# Altium schematic symbol library title_block_lib.SchLib: 1 symbol
Pins are listed as number, name and electrical type; pins without a type are passive.

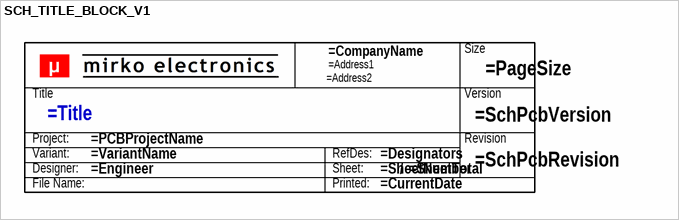
[diagram p0: symbol SCH_TITLE_BLOCK_V1]

## SCH_TITLE_BLOCK_V1
designator TB?, comment Title block  (value not drawn)  (graphical)
Component Type: Title block; Manufacturer: -; Mounting Type: Non component; MPN: -; Operating Temperature: -; Package: -; Specification: Title block; Value: Title block; Replacement: -; System: ?
text: Size; Title; Version; Project:; Revision; Variant:; RefDes:; Designer:; Sheet:; /; File Name:; Printed: